# EAGLE library part MAX_30100 (library MAX_30100_MODULE)
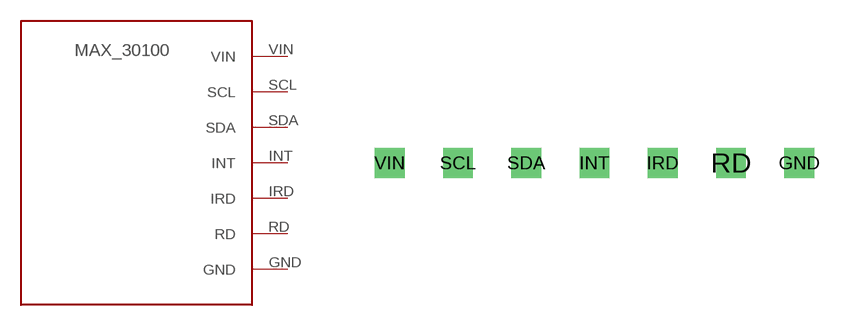
[diagram p0: symbol with the pads of MODULE_MAX30100; footprint MODULE_MAX30100]

Designator prefix -

## MAX_30100  [MODULE_MAX30100]
GND  GND
INT  INT
IRD  IRD
RD  RD
SCL  SCL
SDA  SDA
VIN  VIN

## Footprint MODULE_MAX30100 (pad centres in mm)
drill 0.6 square: GND 7.62,-5.08; INT 0,-5.08; IRD 2.54,-5.08; RD 5.08,-5.08; SCL -5.08,-5.08; SDA -2.54,-5.08; VIN -7.62,-5.08